# Altium schematic symbol library lm_335.SchLib: 1 symbol
Pins are listed as number, name and electrical type; pins without a type are passive.

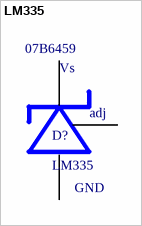
[diagram p0: symbol LM335]

## LM335
designator D?  Supplier Part Number 1: 07B6459
Supplier 1: Newark
footprint TO-226-AE (TO, Flat Index; 3 In-Line, Axial Leads; Body Dia. 4.8mm; Leads 0.55 x 0.51 mm (max))
pins: 1, 2, 3
text: Vs; adj; GND